# EAGLE library part CX70M-24P1 (library con-usb)
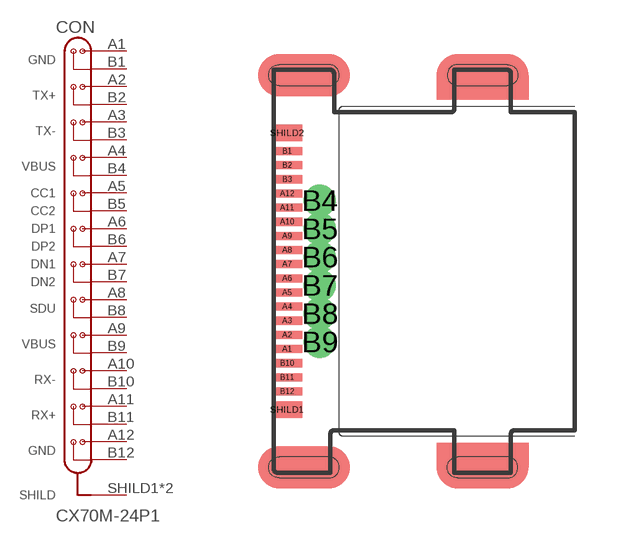
[diagram p0: symbol with the pads of CX70M-24P1; footprint CX70M-24P1]

Designator prefix CON

## CX70M-24P1  [CX70M-24P1]
A1  A1
A2  A2
A3  A3
A4  A4
A5  A5
A6  A6
A7  A7
A8  A8
A9  A9
A10  A10
A11  A11
A12  A12
B1  B1
B2  B2
B3  B3
B4  B4
B5  B5
B6  B6
B7  B7
B8  B8
B9  B9
B10  B10
B11  B11
B12  B12
SHILD1  P$1  pwr
SHILD2  P$1  pwr

## Footprint CX70M-24P1 (pad centres in mm)
smd 0.85 x 0.23: A1 -8.125,-2.2; A2 -8.125,-1.8; A3 -8.125,-1.4; A4 -8.125,-1; A5 -8.125,-0.6; A6 -8.125,-0.2; A7 -8.125,0.2; A8 -8.125,0.6; A9 -8.125,1; A10 -8.125,1.4; A11 -8.125,1.8; A12 -8.125,2.2; B1 -8.125,3.4; B2 -8.125,3; B3 -8.125,2.6; B10 -8.125,-2.6; B11 -8.125,-3; B12 -8.125,-3.4
drill 0.4 pad 0.559: B4 -7.2,2; B5 -7.2,1.2; B6 -7.2,0.4; B7 -7.2,-0.4; B8 -7.2,-1.2; B9 -7.2,-2
smd 0.85 x 0.46: SHILD1 -8.125,-3.915; SHILD2 -8.125,3.915